# EAGLE library part LCD_16X2 (library Eagle3D-Displays)
XIAMEN - ADM1602K - 16 x 2 LCD Module
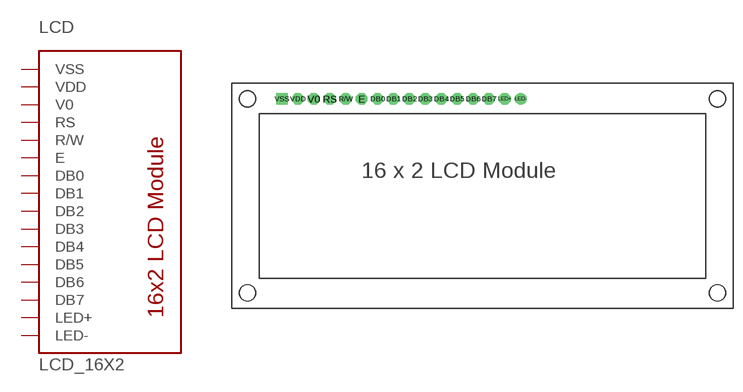
[diagram p0: symbol with the pads of LCD-16X2; footprint LCD-16X2]

Designator prefix LCD

## LCD_16X2  [LCD-16X2]
DB0  DB0
DB1  DB1
DB2  DB2
DB3  DB3
DB4  DB4
DB5  DB5
DB6  DB6
DB7  DB7
E  E  in
LED+  LED+  pwr
LED-  LED-  pwr
R/W  R/W  in
RS  RS  in
V0  V0
VDD  VDD  pwr
VSS  VSS  pwr

## Footprint LCD-16X2 (pad centres in mm)
16 x 2 Display module
drill 1.016 pad 1.88 octagon: DB0 -17.78,15.24; DB1 -15.24,15.24; DB2 -12.7,15.24; DB3 -10.16,15.24; DB4 -7.62,15.24; DB5 -5.08,15.24; DB6 -2.54,15.24; DB7 0,15.24; E -20.32,15.24; LED+ 2.54,15.24; R/W -22.86,15.24; RS -25.4,15.24; V0 -27.94,15.24; VDD -30.48,15.24
drill 1.016 pad 1.88: LED- 5.08,15.24
drill 1.016 pad 1.88 square: VSS -33.02,15.24
hole 2.5 at -38.52,-15.76
hole 2.5 at 36.48,-15.76
hole 2.5 at 36.48,15.24
hole 2.5 at -38.52,15.24